# Altium schematic symbol library 1803293.SchLib: 1 symbol
Pins are listed as number, name and electrical type; pins without a type are passive.

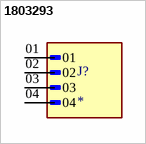
[diagram p0: symbol 1803293]

## 1803293
designator J?
Pluggable Header 3.81mm 16AWG 160V 8A 4 Position COMBICON MC Series | Phoenix Contact 1803293; SnapEDA_Link: https://www.snapeda.com/parts/1803293/Phoenix+Contact/view-part/?ref=snap; Package: None; Value: *; MF: Phoenix Contact; MP: 1803293; Check_prices: https://www.snapeda.com/parts/1803293/Phoenix+Contact/view-part/?ref=eda
footprint PHOENIX_1803293
pins: 01, 02, 03, 04